# Altium footprint library XTAL_3215.PcbLib: 1 footprints
Each footprint in its own frame and in the unit in brackets; x right, y up, seen from the top. Pads: shape width x height; smd on the part's side, far side on the other; paste and mask are expansions set on the pad; w line width, h text height; cw(c..) or ccw(c..) is an arc to the next point about the centre after c.
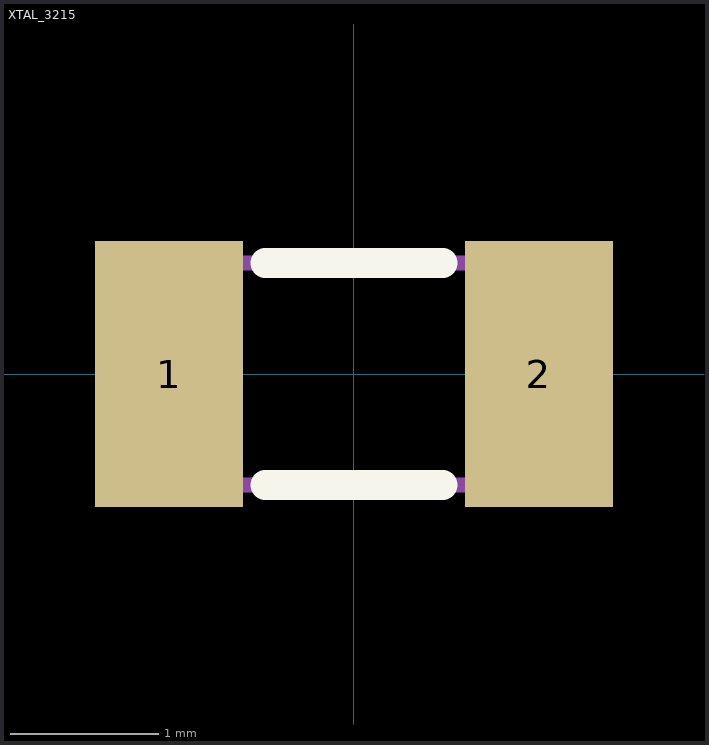
[diagram p0: the footprint, top view; thin cyan lines are the x and y axes]

## XTAL_3215 [mm] "XTAL SMD 3.2 x 1.5 mm"
height 0.8
pads (2):
  rect 1x1.8 smd: 1(-1.25,0) 2(1.25,0)
Top Overlay:
  lines w0.2: -0.6,-0.75 0.6,-0.75 ; -0.6,0.75 0.6,0.75
Mechanical 7:
  lines w0.1: -1.6,-0.75 1.6,-0.75 1.6,0.75 -1.6,0.75 -1.6,-0.75
Mechanical 15:
  lines w0.1: -1.6,-0.55 -1.6,0.55 ccw(c-1.6,0.75) -1.4,0.75 1.4,0.75 ccw(c1.6,0.75) 1.6,0.55 1.6,-0.55 ccw(c1.6,-0.75) 1.4,-0.75 -1.4,-0.75 ccw(c-1.6,-0.75) -1.6,-0.55
3D body "User Library-Siward_SX3215.step": height 0.81, standoff 0, extent -1.6,-0.75 1.6,0.75
3D body: height 0.81, standoff 0.15, extent -1.2,-0.6 1.2,0.6